# Altium schematic symbol library MCP2562-SOIC08.SchLib: 1 symbol
Pins are listed as number, name and electrical type; pins without a type are passive.

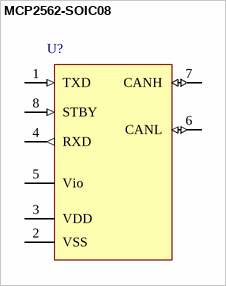
[diagram p0: symbol MCP2562-SOIC08]

## MCP2562-SOIC08
designator U?
pins: 1 TXD (in), 2 VSS (power), 3 VDD (power), 4 RXD (out), 5 Vio (power), 6 CANL (io), 7 CANH (io), 8 STBY (in)